# Altium schematic symbol library ERJ-2GE0R00X.Schlib: 1 symbol
Pins are listed as number, name and electrical type; pins without a type are passive.

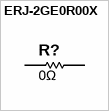
[diagram p0: symbol ERJ-2GE0R00X]

## ERJ-2GE0R00X
designator R?, comment 0Ω
RES 0.0 OHM 1/10W JUMP 0402 SMD; Manufacturer: Panasonic Electronic Components; Manufacturer Part Number: ERJ-2GE0R00X; Package Power: 0402  (0.1W); Resistance (Ohms): 0; Power (Watts): 0.1W- 1/10W; Tolerance: Jumper; Limiting Element Voltage: 50; Maximum Overload Voltage: 100; Maximum Working Voltage: 0.0V; Substitution Notes: 0 , Jumper , 0402 , AEC-Q200; Value: 0Ω; Manufacturer 1: Panasonic Electronic Components; Manufacturer Part Number 1: ERJ-2GE0R00X; Supplier 1: Digi-Key; Supplier Part Number 1: P0.0JCT-ND; Category: Resistors; Composition: Thick Film; Features: 0; Temperature Coefficient: 0; Package: 0402 (1005 Metric); Supplier Package: 402; Height: 0.40MM; Number of Terminations: 2; Sort Value: 0; Sort Value Package: 402_0; Ratings: AEC-Q200
footprint R0402_0.40MM_HD
footprint R0402_0.40MM_MD
footprint R0402_0.40MM_LD
pins: 1, 2